# Altium schematic symbol library components.SchLib: 13 symbols
Pins are listed as number, name and electrical type; pins without a type are passive.

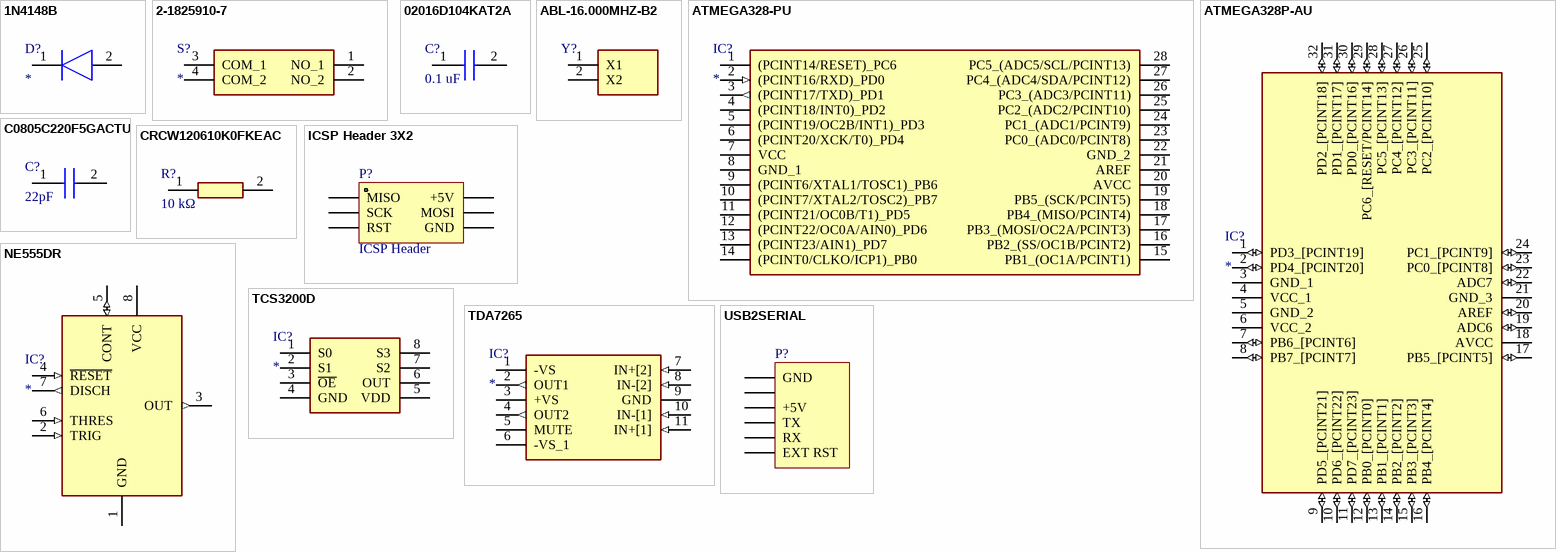
[diagram p0: symbols 1N4148B to USB2SERIAL]

## 1N4148B
designator D?
Diode; Manufacturer_Name: Vishay; Manufacturer_Part_Number: 1N4148B; Datasheet Link: https://www.vishay.com/docs/81857/1n4148.pdf
footprint DIOAD990W55L340D162
pins: 1 K, 2 A

## 2-1825910-7
designator S?
Switch; Manufacturer_Name: TE Connectivity; Manufacturer_Part_Number: 2-1825910-7; Description: Relays; Datasheet Link: http://www.te.com/commerce/DocumentDelivery/DDEController?Action=showdoc&DocId=Customer+Drawing%7F1825910%7FC10%7Fpdf%7FEnglish%7FENG_CD_1825910_C10.pdf%7F2-1825910-7; Height: 13mm; Mouser Part Number: 506-2-1825910-7; Mouser Price/Stock: https://www.mouser.co.uk/ProductDetail/TE-Connectivity-PB/2-1825910-7/?qs=epcAG6di8szpGFLvuwXKeQ%3D%3D; Arrow Part Number: 2-1825910-7; Arrow Price/Stock: https://www.arrow.com/en/products/2-1825910-7/te-connectivity
footprint 218259107
pins: 1 NO_1, 2 NO_2, 3 COM_1, 4 COM_2

## 02016D104KAT2A
designator C?, comment 0.1 uF
Capacitor; Manufacturer_Name: AVX; Manufacturer_Part_Number: 02016D104KAT2A; Description: Capacitor MLCC 0201 100nF 6.3V AVX 0201 Standard 100nF Ceramic Multilayer Capacitor; Datasheet Link: http://www.mouser.com/catalog/supplier/library/pdf/AVXSurfaceMountCeramic.pdf; Height: 0.33mm; Mouser Part Number: 581-02016D104KAT2A; Mouser Price/Stock: https://www.mouser.co.uk/ProductDetail/AVX/02016D104KAT2A/?qs=PN7sAUOUrntlfwxbZzo6OQ%3D%3D; Arrow Part Number: 02016D104KAT2A; Arrow Price/Stock: https://www.arrow.com/en/products/02016d104kat2a/avx; Value: 0.1 uF
footprint CAPC0603X33N
pins: 1, 2

## ABL-16.000MHZ-B2
designator Y?  (value not drawn)
Crystal or Oscillator; Manufacturer_Name: ABRACON; Manufacturer_Part_Number: ABL-16.000MHZ-B2; Description: ABRACON - ABL-16.000MHZ-B2 - CRYSTAL; Datasheet Link: http://www.abracon.com/Resonators/ABL.pdf; Height: 3.5mm; Mouser Part Number: 815-ABL-16-B2; Mouser Price/Stock: https://www.mouser.co.uk/ProductDetail/ABRACON/ABL-16000MHZ-B2?qs=A7YjigRBFZlH19Ss3q%252BAbA%3D%3D; Arrow Part Number: ABL-16.000MHZ-B2; Arrow Price/Stock: https://www.arrow.com/en/products/abl-16.000mhz-b2/abracon
footprint ABL16000MHZB2
pins: 1 X1, 2 X2

## ATMEGA328-PU
designator IC?
Integrated Circuit; Manufacturer_Name: Microchip; Manufacturer_Part_Number: ATMEGA328-PU; Description: 8-bit Microcontrollers - MCU AVR 32K FLSH 1K EE2K SRAM-20MHz IND; Datasheet Link: https://componentsearchengine.com/Datasheets/1/ATMEGA328-PU.pdf; Height: 4.572mm; Mouser Part Number: 556-ATMEGA328-PU; Mouser Price/Stock: https://www.mouser.co.uk/ProductDetail/Microchip-Technology-Atmel/ATMEGA328-PU?qs=lwdSMh1%2FoYJT8tfItQpQtA%3D%3D; Arrow Part Number: ATMEGA328-PU; Arrow Price/Stock: https://www.arrow.com/en/products/atmega328-pu/microchip-technology
footprint DIP1016W53P254L3468H457Q28N
pins: 1 (PCINT14/RESET)_PC6, 2 (PCINT16/RXD)_PD0 (in), 3 (PCINT17/TXD)_PD1 (out), 4 (PCINT18/INT0)_PD2, 5 (PCINT19/OC2B/INT1)_PD3, 6 (PCINT20/XCK/T0)_PD4, 7 VCC (power), 8 GND_1 (power), 9 (PCINT6/XTAL1/TOSC1)_PB6, 10 (PCINT7/XTAL2/TOSC2)_PB7, 11 (PCINT21/OC0B/T1)_PD5, 12 (PCINT22/OC0A/AIN0)_PD6, 13 (PCINT23/AIN1)_PD7, 14 (PCINT0/CLKO/ICP1)_PB0, 15 PB1_(OC1A/PCINT1), 16 PB2_(SS/OC1B/PCINT2), 17 PB3_(MOSI/OC2A/PCINT3), 18 PB4_(MISO/PCINT4), 19 PB5_(SCK/PCINT5), 20 AVCC (power), 21 AREF, 22 GND_2 (power), 23 PC0_(ADC0/PCINT8), 24 PC1_(ADC1/PCINT9), 25 PC2_(ADC2/PCINT10), 26 PC3_(ADC3/PCINT11), 27 PC4_(ADC4/SDA/PCINT12), 28 PC5_(ADC5/SCL/PCINT13)

## ATMEGA328P-AU
designator IC?
Integrated Circuit; Manufacturer_Name: Microchip; Manufacturer_Part_Number: ATMEGA328P-AU; Description: MICROCHIP - ATMEGA328P-AU. - MICROCONTROLLER MCU; Datasheet Link: https://componentsearchengine.com/Datasheets/2/ATMEGA328P-AU.pdf; Height: 1.2mm; Mouser Part Number: 556-ATMEGA328P-AU; Mouser Price/Stock: https://www.mouser.co.uk/ProductDetail/Microchip-Technology-Atmel/ATMEGA328P-AU/?qs=K8BHR703ZXiCmmgp6%2FGNmQ%3D%3D; Arrow Part Number: ATMEGA328P-AU; Arrow Price/Stock: https://www.arrow.com/en/products/atmega328p-au/microchip-technology
footprint QFP80P900X900X120-32N
pins: 1 PD3_[PCINT19] (io), 2 PD4_[PCINT20] (io), 3 GND_1 (power), 4 VCC_1 (power), 5 GND_2 (power), 6 VCC_2 (power), 7 PB6_[PCINT6] (io), 8 PB7_[PCINT7] (io), 9 PD5_[PCINT21] (io), 10 PD6_[PCINT22] (io), 11 PD7_[PCINT23] (io), 12 PB0_[PCINT0] (io), 13 PB1_[PCINT1] (io), 14 PB2_[PCINT2] (io), 15 PB3_[PCINT3] (io), 16 PB4_[PCINT4] (io), 17 PB5_[PCINT5] (io), 18 AVCC (power), 19 ADC6 (io), 20 AREF (io), 21 GND_3 (power), 22 ADC7 (io), 23 PC0_[PCINT8] (io), 24 PC1_[PCINT9] (io), 25 PC2_[PCINT10] (io), 26 PC3_[PCINT11] (io), 27 PC4_[PCINT12] (io), 28 PC5_[PCINT13] (io), 29 PC6_[RESET/PCINT14] (io), 30 PD0_[PCINT16] (io), 31 PD1_[PCINT17] (io), 32 PD2_[PCINT18] (io)

## C0805C220F5GACTU
designator C?, comment 22pF
Capacitor; Manufacturer_Name: Kemet; Manufacturer_Part_Number: C0805C220F5GACTU; Description: Multilayer Ceramic Capacitors MLCC - SMD/SMT 50volts 22pF 1% 0805 C0G; Datasheet Link: https://componentsearchengine.com/Datasheets/1/C0805C220F5GACTU.pdf; Height: 0.9mm; Mouser Part Number: 80-C0805C220F5G; Mouser Price/Stock: https://www.mouser.co.uk/ProductDetail/KEMET/C0805C220F5GACTU/?qs=RXK%252BYb%252BisXRjMukjg6azjA%3D%3D; Arrow Part Number: C0805C220F5GACTU; Arrow Price/Stock: https://www.arrow.com/en/products/c0805c220f5gactu/kemet-corporation; Value: 22pF
footprint CAPC2012X90N
pins: 1, 2

## CRCW120610K0FKEAC
designator R?, comment 10 kΩ
Resistor; Manufacturer_Name: Vishay; Manufacturer_Part_Number: CRCW120610K0FKEAC; Description: Thick Film Resistors - SMD 1/4Watt 10Kohms 1% Commercial Use; Datasheet Link: http://componentsearchengine.com/Datasheets/1/CRCW120610K0FKEAC.pdf; Height: 0.6mm; Mouser Part Number: 71-CRCW120610K0FKEAC; Mouser Price/Stock: https://www.mouser.co.uk/ProductDetail/Vishay-Dale/CRCW120610K0FKEAC/?qs=E3Y5ESvWgWNPpaQJSBoFjw%3D%3D; Arrow Part Number: CRCW120610K0FKEAC; Arrow Price/Stock: https://www.arrow.com/en/products/crcw120610k0fkeac/vishay; Value: 10 kΩ
footprint RESC3216X60N
pins: 1, 2

## ICSP Header 3X2
designator P?, comment ICSP Header
Header, 3-Pin, Dual row
footprint HDR2X3 (Connector; Header; 3x2 Position)
signal-integrity model Connector
pins: 1 MISO, 2 +5V, 3 SCK, 4 MOSI, 5 RST, 6 GND

## NE555DR
designator IC?
Integrated Circuit; Manufacturer_Name: Texas Instruments; Manufacturer_Part_Number: NE555DR; Datasheet Link: http://www.ti.com/lit/ds/symlink/ne555.pdf; Height: 1.75mm; Mouser Part Number: 595-NE555DR; Mouser Price/Stock: https://www.mouser.com/Search/Refine.aspx?Keyword=595-NE555DR; RS Part Number: 1218414; RS Price/Stock: http://uk.rs-online.com/web/p/products/1218414
footprint SOIC127P600X175-8N
pins: 1 GND (power), 2 TRIG (in), 3 OUT (out), 4 ~{RESET} (in), 5 CONT (io), 6 THRES (in), 7 DISCH (out), 8 VCC (power)

## TCS3200D
designator IC?
Integrated Circuit; Manufacturer_Name: TAOS; Manufacturer_Part_Number: TCS3200D; Description: TAOS TCS3200D; Datasheet Link: http://ams.com/eng/content/download/250259/976005/142755; Height: 1.75mm
footprint SOIC127P600X175-8N
pins: 1 S0, 2 S1, 3 ~{OE}, 4 GND, 5 VDD, 6 OUT, 7 S2, 8 S3

## TDA7265
designator IC?
Integrated Circuit; Manufacturer_Name: STMicroelectronics; Manufacturer_Part_Number: TDA7265; Datasheet Link: http://www.st.com/web/en/resource/technical/document/datasheet/CD00000145.pdf; Height: 5mm; Arrow Part Number: TDA7265; Arrow Price/Stock: https://www.arrow.com/en/products/tda7265/stmicroelectronics; Mouser Part Number: 511-TDA7265; Mouser Price/Stock: https://www.mouser.co.uk/ProductDetail/STMicroelectronics/TDA7265?qs=ufngUjGJi9L%2F%2Fq%2F0pt42lA%3D%3D
footprint TO195P500X2020X2210-11P
pins: 1 -VS (power), 2 OUT1 (out), 3 +VS (power), 4 OUT2 (out), 5 MUTE, 6 -VS_1 (power), 7 IN+[2] (in), 8 IN-[2] (in), 9 GND (power), 10 IN-[1] (in), 11 IN+[1] (in)

## USB2SERIAL
designator P?, comment Arduino  (value not drawn)
Header, 6-Pin; Publisher: Altium Limited
footprint HDR1X6 (Connector; Header; 6 Position)
signal-integrity model Connector
pins: 1 GND (power), 2, 3 +5V (power), 4 TX, 5 RX, 6 EXT RST